# Altium integrated library ON Semi Signal Management Comparators.IntLib: 78 symbols (part 2 of 3)
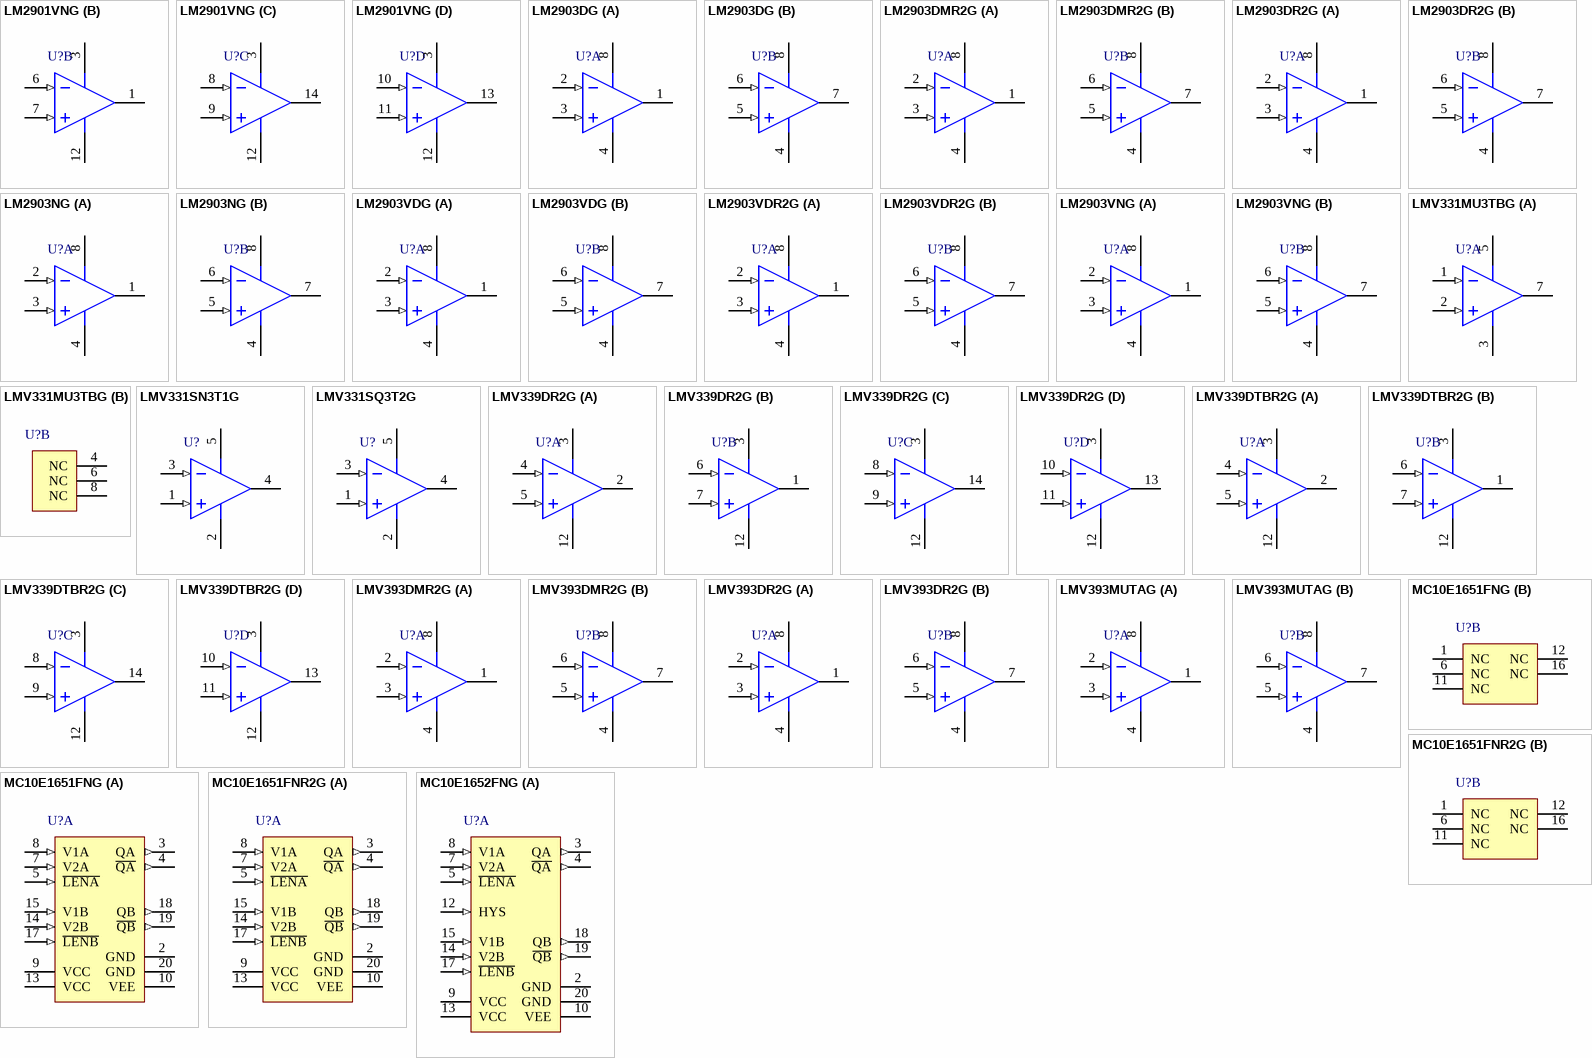
[diagram p5: symbols LM2901VNG to MC10E1652FNG]

## LMV331SQ3T2G
designator U?
Single General Purpose, Low Voltage Comparator, 2.7 to 5 V, -40 to 85 degC, 5-Pin SC70, Pb-Free, Tape and Reel; Manufacturer: On Semiconductor; PartNumber: LMV331SQ3T2G; ICC Typ (mA): 0.06; IO Typ (mA): 84; VCC Max (V): 5; VCC Min (V): 2.7; DatasheetVersion: Rev. 6; PackageVersion: Rev. K, 07/2010; PackageReference: SC70-5-419A-02_K; PackageDescription: 5-Pin Small Outline Transistor, Body 2 x 1.25 mm, Pitch 0.65 mm; Supplier 1: Digi-Key; Supplier Part Number 1: LMV331SQ3T2GOSTR-ND; Supplier 2: Digi-Key; Supplier Part Number 2: LMV331SQ3T2GOSCT-ND; Supplier 3: Digi-Key; Supplier Part Number 3: LMV331SQ3T2GOSDKR-ND; Supplier 4: Newark; Supplier Part Number 4: 13P4652; Supplier 5: Mouser; Supplier Part Number 5: 863-LMV331SQ3T2G; Packing: Tape and Reel; RoHS: TRUE; Mounting Technology: Surface Mount; ComponentLink1Description: Manufacturer URL; ComponentLink1URL: http://www.onsemi.com/; ComponentLink2Description: Datasheet; ComponentLink2URL: http://www.onsemi.com/pub_link/Collateral/LMV331-D.PDF; ComponentLink3Description: Package Specification; ComponentLink3URL: http://www.onsemi.cn/pub_link/Collateral/LMV821-D.PDF
footprint ONSC-SC70-5-419A-02_K_N (SOT23, 5-Leads, Body 2.2x1.35mm, Pitch 0.65mm, IPC Medium Density)
footprint ONSC-SC70-5-419A-02_K_L (SOT23, 5-Leads, Body 2.2x1.35mm, Pitch 0.65mm, IPC High Density)
footprint ONSC-SC70-5-419A-02_K_M (SOT23, 5-Leads, Body 2.2x1.35mm, Pitch 0.65mm, IPC Low Density)
pins: 1 IN+ (in), 2 GND (power), 3 IN- (in), 4 OUT (oc), 5 VCC (power)

## LMV339DR2G
designator U?
Quad General Purpose, Low Voltage Comparator, 2.7 to 5 V, -40 to 85 degC, 14-Pin SOIC, Pb-Free, Tape and Reel; Manufacturer: On Semiconductor; PartNumber: LMV339DR2G; ICC Typ (mA): 0.17; IO Typ (mA): 84; VCC Max (V): 5; VCC Min (V): 2.7; DatasheetVersion: Rev. 6; PackageVersion: Rev. H; PackageReference: SOIC-14-751A-03_H; PackageDescription: 14-Pin Small Outline Integrated Circuit, Body 8.65 x 3.9 mm, Pitch 1.27 mm; Supplier 1: Digi-Key; Supplier Part Number 1: LMV339DR2G-ND; Supplier 2: Mouser; Supplier Part Number 2: 863-LMV339DR2G; Packing: Tape and Reel; RoHS: TRUE; Mounting Technology: Surface Mount; ComponentLink1Description: Manufacturer URL; ComponentLink1URL: http://www.onsemi.com/; ComponentLink2Description: Datasheet; ComponentLink2URL: http://www.onsemi.com/pub_link/Collateral/LMV331-D.PDF; ComponentLink3Description: Package Specification; ComponentLink3URL: http://www.onsemi.com/pub_link/Collateral/MC74AC74-D.PDF
footprint ONSC-SOIC-14-751A-03_H_V (SOIC, 14-Leads, Body 8.75x4mm, Pitch 1.27mm)
pins on every part: 3 VCC (power), 12 GND (power)
part A pins: 2 OUT1 (oc), 4 IN1- (in), 5 IN1+ (in)
part B pins: 1 OUT2 (oc), 6 IN2- (in), 7 IN2+ (in)
part C pins: 8 IN3- (in), 9 IN3+ (in), 14 OUT3 (oc)
part D pins: 10 IN4- (in), 11 IN4+ (in), 13 OUT4 (oc)

## LMV339DTBR2G
designator U?
Quad General Purpose, Low Voltage Comparator, 2.7 to 5 V, -40 to 85 degC, 14-Pin TSSOP, Pb-Free, Tape and Reel; Manufacturer: On Semiconductor; PartNumber: LMV339DTBR2G; ICC Typ (mA): 0.17; IO Typ (mA): 84; VCC Max (V): 5; VCC Min (V): 2.7; DatasheetVersion: Rev. 6; PackageVersion: Rev. B, 10/2006; PackageReference: TSSOP-14-948G-01; PackageDescription: 14-Pin Small Outline Package, Body 5 x 4.4 mm, Pitch 0.65 mm; Supplier 1: Digi-Key; Supplier Part Number 1: LMV339DTBR2G-ND; Supplier 2: Newark; Supplier Part Number 2: 13P4654; Supplier 3: Mouser; Supplier Part Number 3: 863-LMV339DTBR2G; Packing: Tape and Reel; RoHS: TRUE; Mounting Technology: Surface Mount; ComponentLink1Description: Manufacturer URL; ComponentLink1URL: http://www.onsemi.com/; ComponentLink2Description: Datasheet; ComponentLink2URL: http://www.onsemi.com/pub_link/Collateral/LMV331-D.PDF; ComponentLink3Description: Package Specification; ComponentLink3URL: http://www.onsemi.com/pub_link/Collateral/948G-01.PDF
footprint ONSC-TSSOP-14-948G-01_V (SOP, 14-Leads, Body 5.1x4.5mm, Pitch 0.65mm)
pins on every part: 3 VCC (power), 12 GND (power)
part A pins: 2 OUT1 (oc), 4 IN1- (in), 5 IN1+ (in)
part B pins: 1 OUT2 (oc), 6 IN2- (in), 7 IN2+ (in)
part C pins: 8 IN3- (in), 9 IN3+ (in), 14 OUT3 (oc)
part D pins: 10 IN4- (in), 11 IN4+ (in), 13 OUT4 (oc)

## LMV393DMR2G
designator U?
Dual General Purpose, Low Voltage Comparator, 2.7 to 5 V, -40 to 85 degC, 8-Pin MICRO, Pb-Free, Tape and Reel; Manufacturer: On Semiconductor; PartNumber: LMV393DMR2G; ICC Typ (mA): 0.1; IO Typ (mA): 84; VCC Max (V): 5; VCC Min (V): 2.7; DatasheetVersion: Rev. 6; PackageVersion: Rev. H; PackageReference: MICRO-8-846A-02_H; PackageDescription: 8-Pin Small Outline Package, Body 3 x 3 mm, Pitch 0.65 mm; Supplier 1: Digi-Key; Supplier Part Number 1: LMV393DMR2GOSTR-ND; Supplier 2: Digi-Key; Supplier Part Number 2: LMV393DMR2GOSCT-ND; Supplier 3: Digi-Key; Supplier Part Number 3: LMV393DMR2GOSDKR-ND; Supplier 4: Newark; Supplier Part Number 4: 13P4656; Supplier 5: Mouser; Supplier Part Number 5: 863-LMV393DMR2G; Packing: Tape and Reel; RoHS: TRUE; Mounting Technology: Surface Mount; ComponentLink1Description: Manufacturer URL; ComponentLink1URL: http://www.onsemi.com/; ComponentLink2Description: Datasheet; ComponentLink2URL: http://www.onsemi.com/pub_link/Collateral/LMV331-D.PDF; ComponentLink3Description: Package Specification; ComponentLink3URL: http://www.onsemi.com/pub_link/Collateral/NLSV2T244-D.PDF
footprint ONSC-MICRO-8-846A-02_H_V (SOIC, 8-Leads, Body 3.1x3.1mm, Pitch 0.65mm)
pins on every part: 4 GND (power), 8 VCC (power)
part A pins: 1 OUTA (oc), 2 INA- (in), 3 INA+ (in)
part B pins: 5 INB+ (in), 6 INB- (in), 7 OUTB (oc)

## LMV393DR2G
designator U?
Dual General Purpose, Low Voltage Comparator, 2.7 to 5 V, -40 to 85 degC, 8-Pin SOIC, Pb-Free, Tape and Reel; Manufacturer: On Semiconductor; PartNumber: LMV393DR2G; ICC Typ (mA): 0.1; IO Typ (mA): 84; VCC Max (V): 5; VCC Min (V): 2.7; DatasheetVersion: Rev. 6; PackageVersion: Rev. AK, 02/2011; PackageReference: SOIC-8-751-07; PackageDescription: 8-Pin Small Outline Integrated Circuit, Body 4.9 x 3.9 mm, Pitch 1.27 mm; Supplier 1: Digi-Key; Supplier Part Number 1: LMV393DR2G-ND; Supplier 2: Newark; Supplier Part Number 2: 05R9050; Supplier 3: Mouser; Supplier Part Number 3: 863-LMV393DR2G; Packing: Tape and Reel; RoHS: TRUE; Mounting Technology: Surface Mount; ComponentLink1Description: Manufacturer URL; ComponentLink1URL: http://www.onsemi.com/; ComponentLink2Description: Datasheet; ComponentLink2URL: http://www.onsemi.com/pub_link/Collateral/LMV331-D.PDF; ComponentLink3Description: Package Specification; ComponentLink3URL: http://www.onsemi.com/pub_link/Collateral/751-07.PDF
footprint ONSC-SOIC-8-751-07_V (SOIC, 8-Leads, Body 4.9x3.9mm, Pitch 1.27mm)
pins on every part: 4 GND (power), 8 VCC (power)
part A pins: 1 OUTA (oc), 2 INA- (in), 3 INA+ (in)
part B pins: 5 INB+ (in), 6 INB- (in), 7 OUTB (oc)

## LMV393MUTAG
designator U?
Dual General Purpose, Low Voltage Comparator, 2.7 to 5 V, -40 to 85 degC, 8-Pin UDFN, Pb-Free, Tape and Reel; Manufacturer: On Semiconductor; PartNumber: LMV393MUTAG; ICC Typ (mA): 0.1; IO Typ (mA): 84; VCC Max (V): 5; VCC Min (V): 2.7; DatasheetVersion: Rev. 6; PackageVersion: Rev. O, 11/2006; PackageReference: UDFN-8-517AJ-01; PackageDescription: 8-Pin Small Outline No-Lead, Body 1.8 x 1.2 mm, Pitch 0.4 mm; Supplier 1: Digi-Key; Supplier Part Number 1: LMV393MUTAG-ND; Supplier 2: Mouser; Supplier Part Number 2: 863-LMV393MUTAG; Packing: Tape and Reel; RoHS: TRUE; Mounting Technology: Surface Mount; ComponentLink1Description: Manufacturer URL; ComponentLink1URL: http://www.onsemi.com/; ComponentLink2Description: Datasheet; ComponentLink2URL: http://www.onsemi.com/pub_link/Collateral/LMV331-D.PDF; ComponentLink3Description: Package Specification; ComponentLink3URL: http://www.onsemi.cn/pub_link/Collateral/517AJ.PDF.1
footprint ONSC-UDFN-8-517AJ-01_V (SON, 8-Leads, Body 1.8x1.2mm, Pitch 0.4mm)
pins on every part: 4 GND (power), 8 VCC (power)
part A pins: 1 OUTA (oc), 2 INA- (in), 3 INA+ (in)
part B pins: 5 INB+ (in), 6 INB- (in), 7 OUTB (oc)

## MC10E1651FNG
designator U?
Dual ECL Output Comparator with Latch, -5.2 to 5 V, 0 to 85 degC, 20-Pin PLLC, Pb-Free, Tube; Manufacturer: On Semiconductor; PartNumber: MC10E1651FNG; VCC Max (V): 5; DatasheetVersion: Rev. 10; PackageVersion: Rev. F, 07/2008; PackageReference: PLLC-20-775-02; PackageDescription: 20-Pin Plastic Leaded Chip Carrier, Body 8.965 x 8.965 mm, Pitch 1.27 mm; Supplier 1: Digi-Key; Supplier Part Number 1: MC10E1651FNGOS-ND; Supplier 2: Newark; Supplier Part Number 2: 26K3751; Supplier 3: Mouser; Supplier Part Number 3: 863-MC10E1651FNG; Packing: Tube; RoHS: TRUE; VCC Min (V): -5.2; Mounting Technology: Surface Mount; ComponentLink1Description: Manufacturer URL; ComponentLink1URL: http://www.onsemi.com/; ComponentLink2Description: Datasheet; ComponentLink2URL: http://www.onsemi.com/pub_link/Collateral/MC10E1651-D.PDF; ComponentLink3Description: Package Specification; ComponentLink3URL: http://www.onsemi.com/pub_link/Collateral/775-02.PDF
footprint ONSC-PLLC-20-775-02_N (PLCC, 20-Leads, Body 9.04x9.04mm, Pitch 1.27mm, IPC Medium Density)
footprint ONSC-PLLC-20-775-02_L (PLCC, 20-Leads, Body 9.04x9.04mm, Pitch 1.27mm, IPC High Density)
footprint ONSC-PLLC-20-775-02_M (PLCC, 20-Leads, Body 9.04x9.04mm, Pitch 1.27mm, IPC Low Density)
part A pins: 2 GND (power) "Ground", 3 QA (out) "ECL Differential Outputs (a)", 4 ~{QA} (out) "ECL Differential Outputs (a)", 5 ~{LENA} (in) "ECL Latch Enable", 7 V2A (in) "Input Comparator 2", 8 V1A (in) "Input Comparator 1", 9 VCC (power) "Positive Supply", 10 VEE (power) "Negative Supply", 13 VCC (power) "Positive Supply", 14 V2B (in) "Input Comparator 2", 15 V1B (in) "Input Comparator 1", 17 ~{LENB} (in) "ECL Latch Enable", 18 QB (out) "ECL Differential Outputs (b)", 19 ~{QB} (out) "ECL Differential Outputs (b)", 20 GND (power) "Ground"
part B pins: 1 NC "No Connect", 6 NC "No Connect", 11 NC "No Connect", 12 NC "No Connect", 16 NC "No Connect"

## MC10E1651FNR2G
designator U?
Dual ECL Output Comparator with Latch, -5.2 to 5 V, 0 to 85 degC, 20-Pin PLLC, Pb-Free, Tape and Reel; Manufacturer: On Semiconductor; PartNumber: MC10E1651FNR2G; VCC Max (V): 5; DatasheetVersion: Rev. 10; PackageVersion: Rev. F, 07/2008; PackageReference: PLLC-20-775-02; PackageDescription: 20-Pin Plastic Leaded Chip Carrier, Body 8.965 x 8.965 mm, Pitch 1.27 mm; Supplier 1: Digi-Key; Supplier Part Number 1: MC10E1651FNR2GOSTR-ND; Supplier 2: Digi-Key; Supplier Part Number 2: MC10E1651FNR2GOSCT-ND; Supplier 3: Mouser; Supplier Part Number 3: 863-MC10E1651FNR2G; Packing: Tape and Reel; RoHS: TRUE; VCC Min (V): -5.2; Mounting Technology: Surface Mount; ComponentLink1Description: Manufacturer URL; ComponentLink1URL: http://www.onsemi.com/; ComponentLink2Description: Datasheet; ComponentLink2URL: http://www.onsemi.com/pub_link/Collateral/MC10E1651-D.PDF; ComponentLink3Description: Package Specification; ComponentLink3URL: http://www.onsemi.com/pub_link/Collateral/775-02.PDF
footprint ONSC-PLLC-20-775-02_N (PLCC, 20-Leads, Body 9.04x9.04mm, Pitch 1.27mm, IPC Medium Density)
footprint ONSC-PLLC-20-775-02_L (PLCC, 20-Leads, Body 9.04x9.04mm, Pitch 1.27mm, IPC High Density)
footprint ONSC-PLLC-20-775-02_M (PLCC, 20-Leads, Body 9.04x9.04mm, Pitch 1.27mm, IPC Low Density)
part A pins: 2 GND (power) "Ground", 3 QA (out) "ECL Differential Outputs (a)", 4 ~{QA} (out) "ECL Differential Outputs (a)", 5 ~{LENA} (in) "ECL Latch Enable", 7 V2A (in) "Input Comparator 2", 8 V1A (in) "Input Comparator 1", 9 VCC (power) "Positive Supply", 10 VEE (power) "Negative Supply", 13 VCC (power) "Positive Supply", 14 V2B (in) "Input Comparator 2", 15 V1B (in) "Input Comparator 1", 17 ~{LENB} (in) "ECL Latch Enable", 18 QB (out) "ECL Differential Outputs (b)", 19 ~{QB} (out) "ECL Differential Outputs (b)", 20 GND (power) "Ground"
part B pins: 1 NC "No Connect", 6 NC "No Connect", 11 NC "No Connect", 12 NC "No Connect", 16 NC "No Connect"

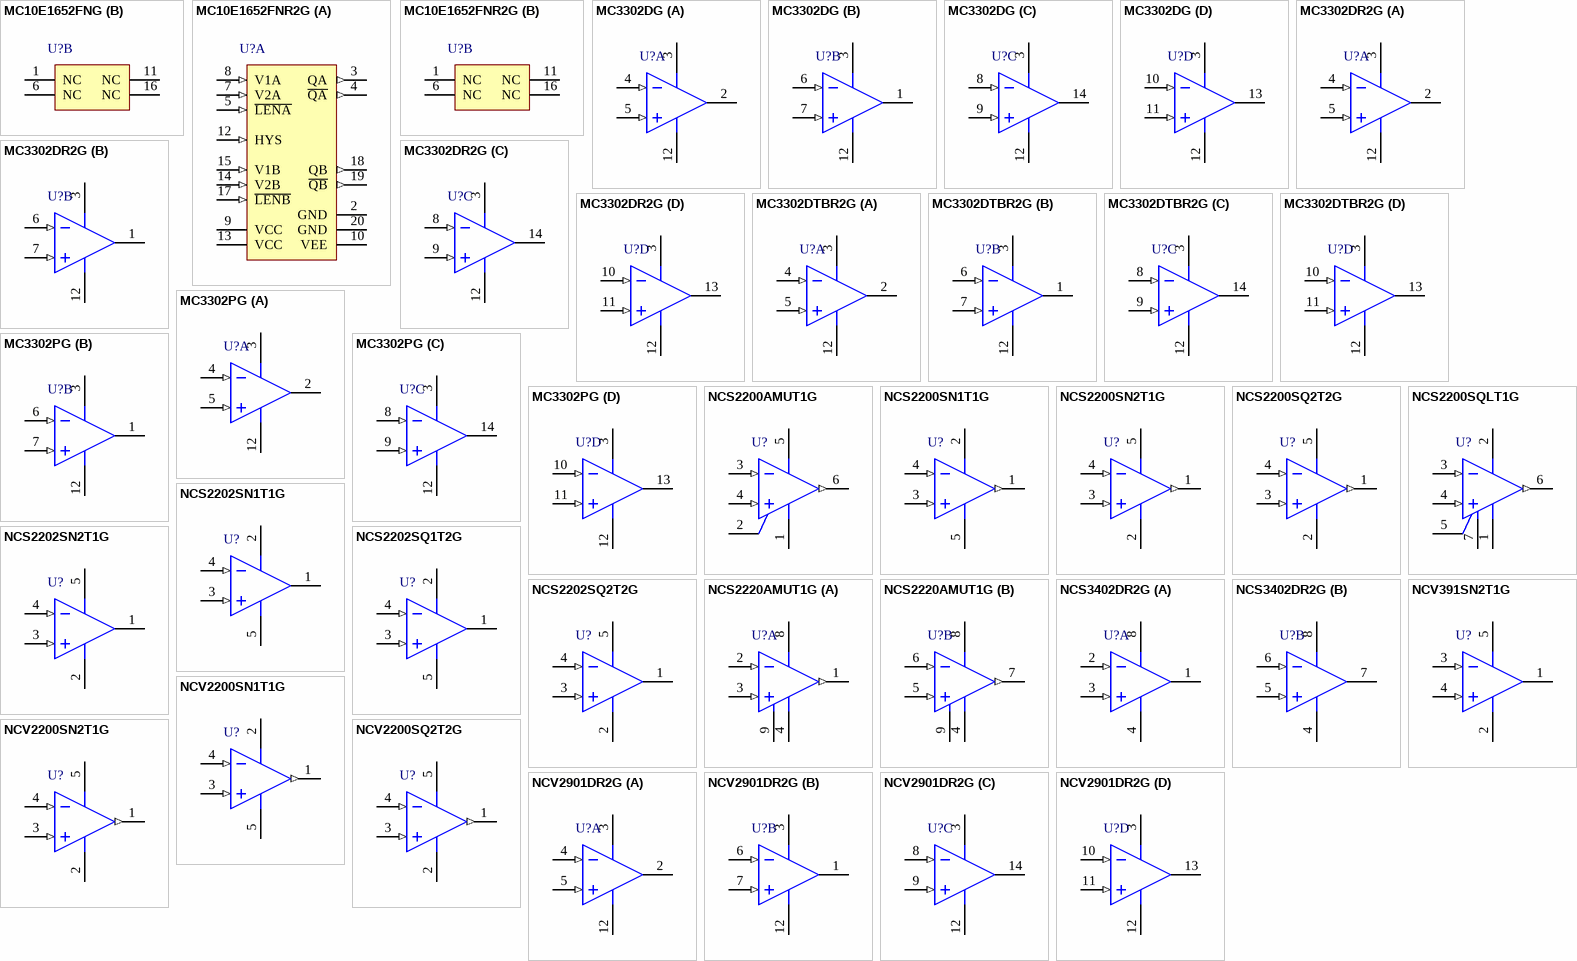
[diagram p3: symbols MC10E1652FNG to NCV2901DR2G]

## MC10E1652FNG
designator U?
Dual ECL Output Comparator with Latch, -5.2 to 5 V, 0 to 85 degC, 20-Pin PLLC, Pb-Free, Tube; Manufacturer: On Semiconductor; PartNumber: MC10E1652FNG; VCC Max (V): 5; DatasheetVersion: Rev. 10; PackageVersion: Rev. F, 07/2008; PackageReference: PLLC-20-775-02; PackageDescription: 20-Pin Plastic Leaded Chip Carrier, Body 8.965 x 8.965 mm, Pitch 1.27 mm; Supplier 1: Digi-Key; Supplier Part Number 1: MC10E1652FNGOS-ND; Supplier 2: Newark; Supplier Part Number 2: 26K3753; Supplier 3: Mouser; Supplier Part Number 3: 863-MC10E1652FNG; Packing: Tube; RoHS: TRUE; VCC Min (V): -5.2; Mounting Technology: Surface Mount; ComponentLink1Description: Manufacturer URL; ComponentLink1URL: http://www.onsemi.com/; ComponentLink2Description: Datasheet; ComponentLink2URL: http://www.onsemi.com/pub_link/Collateral/MC10E1652-D.PDF; ComponentLink3Description: Package Specification; ComponentLink3URL: http://www.onsemi.com/pub_link/Collateral/775-02.PDF
footprint ONSC-PLLC-20-775-02_N (PLCC, 20-Leads, Body 9.04x9.04mm, Pitch 1.27mm, IPC Medium Density)
footprint ONSC-PLLC-20-775-02_L (PLCC, 20-Leads, Body 9.04x9.04mm, Pitch 1.27mm, IPC High Density)
footprint ONSC-PLLC-20-775-02_M (PLCC, 20-Leads, Body 9.04x9.04mm, Pitch 1.27mm, IPC Low Density)
part A pins: 2 GND (power) "Ground", 3 QA (out) "ECL Differential Outputs (a)", 4 ~{QA} (out) "ECL Differential Outputs (a)", 5 ~{LENA} (in) "ECL Latch Enable", 7 V2A (in) "Input Comparator 2", 8 V1A (in) "Input Comparator 1", 9 VCC (power) "Positive Supply", 10 VEE (power) "Negative Supply", 12 HYS (in) "Hysteresis Bias Voltage Control Input", 13 VCC (power) "Positive Supply", 14 V2B (in) "Input Comparator 2", 15 V1B (in) "Input Comparator 1", 17 ~{LENB} (in) "ECL Latch Enable", 18 QB (out) "ECL Differential Outputs (b)", 19 ~{QB} (out) "ECL Differential Outputs (b)", 20 GND (power) "Ground"
part B pins: 1 NC "No Connect", 6 NC "No Connect", 11 NC "No Connect", 16 NC "No Connect"

## MC10E1652FNR2G
designator U?
Dual ECL Output Comparator with Latch, -5.2 to 5 V, 0 to 85 degC, 20-Pin PLLC, Pb-Free, Tape and Reel; Manufacturer: On Semiconductor; PartNumber: MC10E1652FNR2G; VCC Max (V): 5; DatasheetVersion: Rev. 10; PackageVersion: Rev. F, 07/2008; PackageReference: PLLC-20-775-02; PackageDescription: 20-Pin Plastic Leaded Chip Carrier, Body 8.965 x 8.965 mm, Pitch 1.27 mm; Supplier 1: Digi-Key; Supplier Part Number 1: MC10E1652FNR2GOS-ND; Supplier 2: Mouser; Supplier Part Number 2: 863-MC10E1652FNR2G; Packing: Tape and Reel; RoHS: TRUE; VCC Min (V): -5.2; Mounting Technology: Surface Mount; ComponentLink1Description: Manufacturer URL; ComponentLink1URL: http://www.onsemi.com/; ComponentLink2Description: Datasheet; ComponentLink2URL: http://www.onsemi.com/pub_link/Collateral/MC10E1652-D.PDF; ComponentLink3Description: Package Specification; ComponentLink3URL: http://www.onsemi.com/pub_link/Collateral/775-02.PDF
footprint ONSC-PLLC-20-775-02_N (PLCC, 20-Leads, Body 9.04x9.04mm, Pitch 1.27mm, IPC Medium Density)
footprint ONSC-PLLC-20-775-02_L (PLCC, 20-Leads, Body 9.04x9.04mm, Pitch 1.27mm, IPC High Density)
footprint ONSC-PLLC-20-775-02_M (PLCC, 20-Leads, Body 9.04x9.04mm, Pitch 1.27mm, IPC Low Density)
part A pins: 2 GND (power) "Ground", 3 QA (out) "ECL Differential Outputs (a)", 4 ~{QA} (out) "ECL Differential Outputs (a)", 5 ~{LENA} (in) "ECL Latch Enable", 7 V2A (in) "Input Comparator 2", 8 V1A (in) "Input Comparator 1", 9 VCC (power) "Positive Supply", 10 VEE (power) "Negative Supply", 12 HYS (in) "Hysteresis Bias Voltage Control Input", 13 VCC (power) "Positive Supply", 14 V2B (in) "Input Comparator 2", 15 V1B (in) "Input Comparator 1", 17 ~{LENB} (in) "ECL Latch Enable", 18 QB (out) "ECL Differential Outputs (b)", 19 ~{QB} (out) "ECL Differential Outputs (b)", 20 GND (power) "Ground"
part B pins: 1 NC "No Connect", 6 NC "No Connect", 11 NC "No Connect", 16 NC "No Connect"

## MC3302DG
designator U?
Single Supply Quad Comparators, -40 to 85 degC, 14-Pin SOIC, Pb-Free, Tube; Manufacturer: On Semiconductor; PartNumber: MC3302DG; IO Typ (mA): 16; DatasheetVersion: Rev. 20; PackageVersion: Rev. K, 05/2011; PackageReference: SOIC-14-751A-03; PackageDescription: 14-Pin Small Outline Integrated Circuit, Body 8.65 x 3.9 mm, Pitch 1.27 mm; Supplier 1: Digi-Key; Supplier Part Number 1: MC3302DG-ND; Supplier 2: Mouser; Supplier Part Number 2: 863-MC3302DG; Packing: Tube; RoHS: TRUE; Mounting Technology: Surface Mount; ComponentLink1Description: Manufacturer URL; ComponentLink1URL: http://www.onsemi.com/; ComponentLink2Description: Datasheet; ComponentLink2URL: http://www.onsemi.com/pub_link/Collateral/LM339-D.PDF; ComponentLink3Description: Package Specification; ComponentLink3URL: http://www.onsemi.com/pub_link/Collateral/751A-03.PDF
footprint ONSC-SOIC-14-751A-03_V (SOIC, 14-Leads, Body 8.75x4mm, Pitch 1.27mm)
pins on every part: 3 VCC (power), 12 GND (power)
part A pins: 2 OUT1 (oc), 4 IN1- (in), 5 IN1+ (in)
part B pins: 1 OUT2 (oc), 6 IN2- (in), 7 IN2+ (in)
part C pins: 8 IN3- (in), 9 IN3+ (in), 14 OUT3 (oc)
part D pins: 10 IN4- (in), 11 IN4+ (in), 13 OUT4 (oc)

## MC3302DR2G
designator U?
Single Supply Quad Comparators, -40 to 85 degC, 14-Pin SOIC, Pb-Free, Tape and Reel; Manufacturer: On Semiconductor; PartNumber: MC3302DR2G; IO Typ (mA): 16; DatasheetVersion: Rev. 20; PackageVersion: Rev. K, 05/2011; PackageReference: SOIC-14-751A-03; PackageDescription: 14-Pin Small Outline Integrated Circuit, Body 8.65 x 3.9 mm, Pitch 1.27 mm; Supplier 1: Digi-Key; Supplier Part Number 1: MC3302DR2GOSTR-ND; Supplier 2: Digi-Key; Supplier Part Number 2: MC3302DR2GOSCT-ND; Supplier 3: Digi-Key; Supplier Part Number 3: MC3302DR2GOSDKR-ND; Supplier 4: Mouser; Supplier Part Number 4: 863-MC3302DR2G; Packing: Tape and Reel; RoHS: TRUE; Mounting Technology: Surface Mount; ComponentLink1Description: Manufacturer URL; ComponentLink1URL: http://www.onsemi.com/; ComponentLink2Description: Datasheet; ComponentLink2URL: http://www.onsemi.com/pub_link/Collateral/LM339-D.PDF; ComponentLink3Description: Package Specification; ComponentLink3URL: http://www.onsemi.com/pub_link/Collateral/751A-03.PDF
footprint ONSC-SOIC-14-751A-03_V (SOIC, 14-Leads, Body 8.75x4mm, Pitch 1.27mm)
pins on every part: 3 VCC (power), 12 GND (power)
part A pins: 2 OUT1 (oc), 4 IN1- (in), 5 IN1+ (in)
part B pins: 1 OUT2 (oc), 6 IN2- (in), 7 IN2+ (in)
part C pins: 8 IN3- (in), 9 IN3+ (in), 14 OUT3 (oc)
part D pins: 10 IN4- (in), 11 IN4+ (in), 13 OUT4 (oc)

## MC3302DTBR2G
designator U?
Single Supply Quad Comparators, -40 to 85 degC, 14-Pin TSSOP, Pb-Free, Tape and Reel; Manufacturer: On Semiconductor; PartNumber: MC3302DTBR2G; IO Typ (mA): 16; DatasheetVersion: Rev. 20; PackageVersion: Rev. B, 10/2006; PackageReference: TSSOP-14-948G-01; PackageDescription: 14-Pin Small Outline Package, Body 5 x 4.4 mm, Pitch 0.65 mm; Supplier 1: Digi-Key; Supplier Part Number 1: MC3302DTBR2GOSTR-ND; Supplier 2: Digi-Key; Supplier Part Number 2: MC3302DTBR2GOSCT-ND; Supplier 3: Mouser; Supplier Part Number 3: 863-MC3302DTBR2G; Packing: Tape and Reel; RoHS: TRUE; Mounting Technology: Surface Mount; ComponentLink1Description: Manufacturer URL; ComponentLink1URL: http://www.onsemi.com/; ComponentLink2Description: Datasheet; ComponentLink2URL: http://www.onsemi.com/pub_link/Collateral/LM339-D.PDF; ComponentLink3Description: Package Specification; ComponentLink3URL: http://www.onsemi.com/pub_link/Collateral/948G-01.PDF
footprint ONSC-TSSOP-14-948G-01_V (SOP, 14-Leads, Body 5.1x4.5mm, Pitch 0.65mm)
pins on every part: 3 VCC (power), 12 GND (power)
part A pins: 2 OUT1 (oc), 4 IN1- (in), 5 IN1+ (in)
part B pins: 1 OUT2 (oc), 6 IN2- (in), 7 IN2+ (in)
part C pins: 8 IN3- (in), 9 IN3+ (in), 14 OUT3 (oc)
part D pins: 10 IN4- (in), 11 IN4+ (in), 13 OUT4 (oc)

## MC3302PG
designator U?
Single Supply Quad Comparators, -40 to 85 degC, 14-Pin PDIP, Pb-Free, Tube; Manufacturer: On Semiconductor; PartNumber: MC3302PG; IO Typ (mA): 16; DatasheetVersion: Rev. 20; PackageVersion: Rev. R, 06/2013; PackageReference: PDIP-14-646-06; PackageDescription: 14-Pin Plastic Dual-In Line Package, Body 19.18 x 6.605 mm, Pitch 2.54 mm; Supplier 1: Digi-Key; Supplier Part Number 1: MC3302PGOS-ND; Supplier 2: Farnell; Supplier Part Number 2: 1468733; Supplier 3: Newark; Supplier Part Number 3: 71J5510; Supplier 4: Mouser; Supplier Part Number 4: 863-MC3302PG; Packing: Tube; RoHS: TRUE; Mounting Technology: Through Hole; ComponentLink1Description: Manufacturer URL; ComponentLink1URL: http://www.onsemi.com/; ComponentLink2Description: Datasheet; ComponentLink2URL: http://www.onsemi.com/pub_link/Collateral/LM339-D.PDF; ComponentLink3Description: Package Specification; ComponentLink3URL: http://www.onsemi.com/pub_link/Collateral/646-06.PDF
footprint ONSC-PDIP-14-646-06 (DIP, 14-Leads, Body 19.7x7.1mm, Pitch 2.54mm)
pins on every part: 3 VCC (power), 12 GND (power)
part A pins: 2 OUT1 (oc), 4 IN1- (in), 5 IN1+ (in)
part B pins: 1 OUT2 (oc), 6 IN2- (in), 7 IN2+ (in)
part C pins: 8 IN3- (in), 9 IN3+ (in), 14 OUT3 (oc)
part D pins: 10 IN4- (in), 11 IN4+ (in), 13 OUT4 (oc)

## NCS2200AMUT1G
designator U?
Low Voltage Comparator, 0.85 to 6 V, -40 to 105 degC, 6-Pin UDFN6, Pb-Free, Tape and Reel; Manufacturer: On Semiconductor; PartNumber: NCS2200AMUT1G; ICC Typ (mA): 0.01; VCC Max (V): 6; VCC Min (V): 0.85; DatasheetVersion: Rev. 15; PackageVersion: Rev. D, 09/2010; PackageReference: UDFN-6-517AA-01; PackageDescription: 6-Pin Small Outline No-Lead, Body 1.2 x 1 mm, Pitch 0.4 mm; Supplier 1: Digi-Key; Supplier Part Number 1: NCS2200AMUT1GOSTR-ND; Supplier 2: Digi-Key; Supplier Part Number 2: NCS2200AMUT1GOSCT-ND; Supplier 3: Digi-Key; Supplier Part Number 3: NCS2200AMUT1GOSDKR-ND; Supplier 4: Farnell; Supplier Part Number 4: 1369752; Supplier 5: Farnell; Supplier Part Number 5: 1369752RL; Supplier 6: Newark; Supplier Part Number 6: 53M9468; Supplier 7: Mouser; Supplier Part Number 7: 863-NCS2200AMUT1G; Packing: Tape and Reel; RoHS: TRUE; Mounting Technology: Surface Mount; ComponentLink1Description: Manufacturer URL; ComponentLink1URL: http://www.onsemi.com/; ComponentLink2Description: Datasheet; ComponentLink2URL: http://www.onsemi.com/pub_link/Collateral/NCS2200-D.PDF; ComponentLink3Description: Package Specification; ComponentLink3URL: http://www.onsemi.com/pub_link/Collateral/517AA.PDF
footprint ONSC-UDFN6-6-517AA-01_V (SON, 6-Leads, Body 1.2x1mm, Pitch 0.4mm)
pins: 1 VEE (power), 2 NC, 3 IN- (in), 4 IN+ (in), 5 VCC (power), 6 VOUT (out)

## NCS2200SN1T1G
designator U?
Low Voltage Comparator, 0.85 to 6 V, -40 to 105 degC, 5-Pin TSOP, Pb-Free, Tape and Reel; Manufacturer: On Semiconductor; PartNumber: NCS2200SN1T1G; ICC Typ (mA): 0.01; VCC Max (V): 6; VCC Min (V): 0.85; DatasheetVersion: Rev. 15; PackageVersion: Rev. K, 04/2013; PackageReference: TSOP-5-483-02; PackageDescription: 5-Pin Small Outline Package, Body 3 x 1.5 mm, Pitch 0.95 mm; Supplier 1: Digi-Key; Supplier Part Number 1: NCS2200SN1T1GOSTR-ND; Supplier 2: Digi-Key; Supplier Part Number 2: NCS2200SN1T1GOSCT-ND; Supplier 3: Digi-Key; Supplier Part Number 3: NCS2200SN1T1GOSDKR-ND; Supplier 4: Mouser; Supplier Part Number 4: 863-NCS2200SN1T1G; Packing: Tape and Reel; RoHS: TRUE; Mounting Technology: Surface Mount; ComponentLink1Description: Manufacturer URL; ComponentLink1URL: http://www.onsemi.com/; ComponentLink2Description: Datasheet; ComponentLink2URL: http://www.onsemi.com/pub_link/Collateral/NCS2200-D.PDF; ComponentLink3Description: Package Specification; ComponentLink3URL: http://www.onsemi.com/pub_link/Collateral/483.PDF
footprint ONSC-TSOP-5-483-02_V (SOP, 5-Leads, Body 3x1.5mm, Pitch 0.95mm)
pins: 1 OUT (out), 2 VCC (power), 3 IN+ (in), 4 IN- (in), 5 VEE (power)

## NCS2200SN2T1G
designator U?
Low Voltage Comparator, 0.85 to 6 V, -40 to 105 degC, 5-Pin TSOP, Pb-Free, Tape and Reel; Manufacturer: On Semiconductor; PartNumber: NCS2200SN2T1G; ICC Typ (mA): 0.01; VCC Max (V): 6; VCC Min (V): 0.85; DatasheetVersion: Rev. 15; PackageVersion: Rev. K, 04/2013; PackageReference: TSOP-5-483-02; PackageDescription: 5-Pin Small Outline Package, Body 3 x 1.5 mm, Pitch 0.95 mm; Supplier 1: Digi-Key; Supplier Part Number 1: NCS2200SN2T1GOSTR-ND; Supplier 2: Digi-Key; Supplier Part Number 2: NCS2200SN2T1GOSCT-ND; Supplier 3: Mouser; Supplier Part Number 3: 863-NCS2200SN2T1G; Packing: Tape and Reel; RoHS: TRUE; Mounting Technology: Surface Mount; ComponentLink1Description: Manufacturer URL; ComponentLink1URL: http://www.onsemi.com/; ComponentLink2Description: Datasheet; ComponentLink2URL: http://www.onsemi.com/pub_link/Collateral/NCS2200-D.PDF; ComponentLink3Description: Package Specification; ComponentLink3URL: http://www.onsemi.com/pub_link/Collateral/483.PDF
footprint ONSC-TSOP-5-483-02_V (SOP, 5-Leads, Body 3x1.5mm, Pitch 0.95mm)
pins: 1 OUT (out), 2 VEE (power), 3 IN+ (in), 4 IN- (in), 5 VCC (power)

## NCS2200SQ2T2G
designator U?
Low Voltage Comparator, 0.85 to 6 V, -40 to 105 degC, 5-Pin SC70, Pb-Free, Tape and Reel; Manufacturer: On Semiconductor; PartNumber: NCS2200SQ2T2G; ICC Typ (mA): 0.01; VCC Max (V): 6; VCC Min (V): 0.85; DatasheetVersion: Rev. 15; PackageVersion: Rev. L, 01/2013; PackageReference: SC70-5-419A-02; PackageDescription: 5-Pin Small Outline Transistor, Body 2 x 1.25 mm, Pitch 0.65 mm; Supplier 1: Digi-Key; Supplier Part Number 1: NCS2200SQ2T2GOSTR-ND; Supplier 2: Digi-Key; Supplier Part Number 2: NCS2200SQ2T2GOSCT-ND; Supplier 3: Digi-Key; Supplier Part Number 3: NCS2200SQ2T2GOSDKR-ND; Supplier 4: Mouser; Supplier Part Number 4: 863-NCS2200SQ2T2G; Packing: Tape and Reel; RoHS: TRUE; Mounting Technology: Surface Mount; ComponentLink1Description: Manufacturer URL; ComponentLink1URL: http://www.onsemi.com/; ComponentLink2Description: Datasheet; ComponentLink2URL: http://www.onsemi.com/pub_link/Collateral/NCS2200-D.PDF; ComponentLink3Description: Package Specification; ComponentLink3URL: http://www.onsemi.cn/pub_link/Collateral/419A-02.PDF
footprint ONSC-SC70-5-419A-02_V (SOT23, 5-Leads, Body 2x1.25mm, Pitch 0.65mm)
pins: 1 OUT (out), 2 VEE (power), 3 IN+ (in), 4 IN- (in), 5 VCC (power)

## NCS2200SQLT1G
designator U?
Low Voltage Comparator, 0.85 to 6 V, -40 to 105 degC, 6-Pin DFN, Pb-Free, Tape and Reel; Manufacturer: On Semiconductor; PartNumber: NCS2200SQLT1G; ICC Typ (mA): 0.01; VCC Max (V): 6; VCC Min (V): 0.85; DatasheetVersion: Rev. 15; PackageVersion: Rev. G, 02/2006; PackageReference: DFN-6-488-03; PackageDescription: 6-Pin Small Outline No-Lead, Body 2 x 2.2 mm, Pitch 0.65 mm; Supplier 1: Digi-Key; Supplier Part Number 1: NCS2200SQLT1GOSTR-ND; Supplier 2: Digi-Key; Supplier Part Number 2: NCS2200SQLT1GOSCT-ND; Supplier 3: Mouser; Supplier Part Number 3: 863-NCS2200SQLT1G; Packing: Tape and Reel; RoHS: TRUE; Mounting Technology: Surface Mount; ComponentLink1Description: Manufacturer URL; ComponentLink1URL: http://www.onsemi.com/; ComponentLink2Description: Datasheet; ComponentLink2URL: http://www.onsemi.com/pub_link/Collateral/NCS2200-D.PDF; ComponentLink3Description: Package Specification; ComponentLink3URL: http://www.onsemi.com/pub_link/Collateral/488.PDF
footprint ONSC-DFN6-6-488-03_V (SON, 6-Leads, Body 2.2x2mm, Pitch 0.65mm)
pins: 1 VEE (power), 2 VCC (power), 3 IN- (in), 4 IN+ (in), 5 NC, 6 VOUT (out), 7 EP

## NCS2202SN1T1G
designator U?
Low Voltage Comparator, 0.85 to 6 V, -40 to 105 degC, 5-Pin TSOP, Pb-Free, Tape and Reel; Manufacturer: On Semiconductor; PartNumber: NCS2202SN1T1G; ICC Typ (mA): 0.01; VCC Max (V): 6; VCC Min (V): 0.85; DatasheetVersion: Rev. 15; PackageVersion: Rev. K, 04/2013; PackageReference: TSOP-5-483-02; PackageDescription: 5-Pin Small Outline Package, Body 3 x 1.5 mm, Pitch 0.95 mm; Supplier 1: Digi-Key; Supplier Part Number 1: NCS2202SN1T1GOSTR-ND; Supplier 2: Digi-Key; Supplier Part Number 2: NCS2202SN1T1GOSCT-ND; Supplier 3: Newark; Supplier Part Number 3: 45J1980; Supplier 4: Mouser; Supplier Part Number 4: 863-NCS2202SN1T1G; Packing: Tape and Reel; RoHS: TRUE; Mounting Technology: Surface Mount; ComponentLink1Description: Manufacturer URL; ComponentLink1URL: http://www.onsemi.com/; ComponentLink2Description: Datasheet; ComponentLink2URL: http://www.onsemi.com/pub_link/Collateral/NCS2200-D.PDF; ComponentLink3Description: Package Specification; ComponentLink3URL: http://www.onsemi.com/pub_link/Collateral/483.PDF
footprint ONSC-TSOP-5-483-02_V (SOP, 5-Leads, Body 3x1.5mm, Pitch 0.95mm)
pins: 1 OUT (oc), 2 VCC (power), 3 IN+ (in), 4 IN- (in), 5 VEE (power)

## NCS2202SN2T1G
designator U?
Low Voltage Comparator, 0.85 to 6 V, -40 to 105 degC, 5-Pin TSOP, Pb-Free, Tape and Reel; Manufacturer: On Semiconductor; PartNumber: NCS2202SN2T1G; ICC Typ (mA): 0.01; VCC Max (V): 6; VCC Min (V): 0.85; DatasheetVersion: Rev. 15; PackageVersion: Rev. K, 04/2013; PackageReference: TSOP-5-483-02; PackageDescription: 5-Pin Small Outline Package, Body 3 x 1.5 mm, Pitch 0.95 mm; Supplier 1: Digi-Key; Supplier Part Number 1: NCS2202SN2T1GOSTR-ND; Supplier 2: Digi-Key; Supplier Part Number 2: NCS2202SN2T1GOSCT-ND; Supplier 3: Newark; Supplier Part Number 3: 26K4993; Supplier 4: Mouser; Supplier Part Number 4: 863-NCS2202SN2T1G; Packing: Tape and Reel; RoHS: TRUE; Mounting Technology: Surface Mount; ComponentLink1Description: Manufacturer URL; ComponentLink1URL: http://www.onsemi.com/; ComponentLink2Description: Datasheet; ComponentLink2URL: http://www.onsemi.com/pub_link/Collateral/NCS2200-D.PDF; ComponentLink3Description: Package Specification; ComponentLink3URL: http://www.onsemi.com/pub_link/Collateral/483.PDF
footprint ONSC-TSOP-5-483-02_V (SOP, 5-Leads, Body 3x1.5mm, Pitch 0.95mm)
pins: 1 OUT (oc), 2 VEE (power), 3 IN+ (in), 4 IN- (in), 5 VCC (power)

## NCS2202SQ1T2G
designator U?
Low Voltage Comparator, 0.85 to 6 V, -40 to 105 degC, 5-Pin SC70, Pb-Free, Tape and Reel; Manufacturer: On Semiconductor; PartNumber: NCS2202SQ1T2G; ICC Typ (mA): 0.01; VCC Max (V): 6; VCC Min (V): 0.85; DatasheetVersion: Rev. 15; PackageVersion: Rev. L, 01/2013; PackageReference: SC70-5-419A-02; PackageDescription: 5-Pin Small Outline Transistor, Body 2 x 1.25 mm, Pitch 0.65 mm; Supplier 1: Digi-Key; Supplier Part Number 1: NCS2202SQ1T2GOSTR-ND; Supplier 2: Digi-Key; Supplier Part Number 2: NCS2202SQ1T2GOSCT-ND; Supplier 3: Mouser; Supplier Part Number 3: 863-NCS2202SQ1T2G; Packing: Tape and Reel; RoHS: TRUE; Mounting Technology: Surface Mount; ComponentLink1Description: Manufacturer URL; ComponentLink1URL: http://www.onsemi.com/; ComponentLink2Description: Datasheet; ComponentLink2URL: http://www.onsemi.com/pub_link/Collateral/NCS2200-D.PDF; ComponentLink3Description: Package Specification; ComponentLink3URL: http://www.onsemi.cn/pub_link/Collateral/419A-02.PDF
footprint ONSC-SC70-5-419A-02_V (SOT23, 5-Leads, Body 2x1.25mm, Pitch 0.65mm)
pins: 1 OUT (oc), 2 VCC (power), 3 IN+ (in), 4 IN- (in), 5 VEE (power)

## NCS2202SQ2T2G
designator U?
Low Voltage Comparator, 0.85 to 6 V, -40 to 105 degC, 5-Pin SC70, Pb-Free, Tape and Reel; Manufacturer: On Semiconductor; PartNumber: NCS2202SQ2T2G; ICC Typ (mA): 0.01; VCC Max (V): 6; VCC Min (V): 0.85; DatasheetVersion: Rev. 15; PackageVersion: Rev. L, 01/2013; PackageReference: SC70-5-419A-02; PackageDescription: 5-Pin Small Outline Transistor, Body 2 x 1.25 mm, Pitch 0.65 mm; Supplier 1: Digi-Key; Supplier Part Number 1: NCS2202SQ2T2GOSTR-ND; Supplier 2: Digi-Key; Supplier Part Number 2: NCS2202SQ2T2GOSCT-ND; Supplier 3: Mouser; Supplier Part Number 3: 863-NCS2202SQ2T2G; Packing: Tape and Reel; RoHS: TRUE; Mounting Technology: Surface Mount; ComponentLink1Description: Manufacturer URL; ComponentLink1URL: http://www.onsemi.com/; ComponentLink2Description: Datasheet; ComponentLink2URL: http://www.onsemi.com/pub_link/Collateral/NCS2200-D.PDF; ComponentLink3Description: Package Specification; ComponentLink3URL: http://www.onsemi.cn/pub_link/Collateral/419A-02.PDF
footprint ONSC-SC70-5-419A-02_V (SOT23, 5-Leads, Body 2x1.25mm, Pitch 0.65mm)
pins: 1 OUT (oc), 2 VEE (power), 3 IN+ (in), 4 IN- (in), 5 VCC (power)

## NCS2220AMUT1G
designator U?
Low Voltage Comparator, 0.85 to 6 V, -40 to 105 degC, 8-Pin UDFN8, Pb-Free, Tape and Reel; Manufacturer: On Semiconductor; PartNumber: NCS2220AMUT1G; VCC Max (V): 6; VCC Min (V): 0.85; DatasheetVersion: Rev. 2; PackageVersion: Rev. A; PackageReference: UDFN-8-517AC-01; PackageDescription: 8-Pin Small Outline No-Lead, Body 1.6 x 1.6 mm, Pitch 0.4 mm; Supplier 1: Digi-Key; Supplier Part Number 1: NCS2220AMUT1GOSTR-ND; Supplier 2: Digi-Key; Supplier Part Number 2: NCS2220AMUT1GOSCT-ND; Supplier 3: Digi-Key; Supplier Part Number 3: NCS2220AMUT1GOSDKR-ND; Supplier 4: Farnell; Supplier Part Number 4: 1426377RL; Supplier 5: Farnell; Supplier Part Number 5: 1426377; Supplier 6: Mouser; Supplier Part Number 6: 863-NCS2220AMUT1G; Packing: Tape and Reel; RoHS: TRUE; Mounting Technology: Surface Mount; ComponentLink1Description: Manufacturer URL; ComponentLink1URL: http://www.onsemi.com/; ComponentLink2Description: Datasheet; ComponentLink2URL: http://www.onsemi.com/pub_link/Collateral/NCS2220A-D.PDF; ComponentLink3Description: Package Specification; ComponentLink3URL: http://www.onsemi.com/pub_link/Collateral/517AC.PDF.1
footprint ONSC-UDFN8-8-517AC-01_V (SON, 8-Leads, Body 1.6x1.6mm, Pitch 0.4mm, Thermal Pad 0.502x0.902mm)
pins on every part: 4 VEE (power), 8 VCC (power), 9 EP
part A pins: 1 OUT1 (out), 2 IN1- (in), 3 IN1+ (in)
part B pins: 5 IN2+ (in), 6 IN2- (in), 7 OUT2 (out)

## NCS3402DR2G
designator U?
Dual Nano-Power Open Drain Output Comparator, 2.7 to 16 V, -40 to 125 degC, 8-Pin SOIC, Pb-Free, Tape and Reel; Manufacturer: On Semiconductor; PartNumber: NCS3402DR2G; VCC Max (V): 16; VCC Min (V): 2.7; DatasheetVersion: Rev. 2; PackageVersion: Rev. AK, 02/2011; PackageReference: SOIC-8-751-07; PackageDescription: 8-Pin Small Outline Integrated Circuit, Body 4.9 x 3.9 mm, Pitch 1.27 mm; Supplier 1: Digi-Key; Supplier Part Number 1: NCS3402DR2GOSTR-ND; Supplier 2: Digi-Key; Supplier Part Number 2: NCS3402DR2GOSCT-ND; Supplier 3: Digi-Key; Supplier Part Number 3: NCS3402DR2GOSDKR-ND; Supplier 4: Mouser; Supplier Part Number 4: 863-NCS3402DR2G; Packing: Tape and Reel; RoHS: TRUE; Mounting Technology: Surface Mount; ComponentLink1Description: Manufacturer URL; ComponentLink1URL: http://www.onsemi.com/; ComponentLink2Description: Datasheet; ComponentLink2URL: http://www.onsemi.com/pub_link/Collateral/NCS3402-D.PDF; ComponentLink3Description: Package Specification; ComponentLink3URL: http://www.onsemi.com/pub_link/Collateral/751-07.PDF
footprint ONSC-SOIC-8-751-07_V (SOIC, 8-Leads, Body 4.9x3.9mm, Pitch 1.27mm)
pins on every part: 4 VSS (power) "Negative Power Supply", 8 VDD (power) "Positive Power Supply"
part A pins: 1 OUT1 (oc) "Channel 1 Output", 2 IN1- (in) "Channel 1 Inverting Input", 3 IN1+ (in) "Channel 1 Non-Inverting Input"
part B pins: 5 IN2+ (in) "Channel 2 Non-Inverting Input", 6 IN2- (in) "Channel 2 Inverting Input", 7 OUT2 (oc) "Channel 2 Output"

## NCV391SN2T1G
designator U?
Low Power Single Voltage Comparator, 2 to 36 V, -40 to 125 degC, 5-Pin TSOP, Pb-Free, Tape and Reel; Manufacturer: On Semiconductor; PartNumber: NCV391SN2T1G; ICC Typ (mA): 0.5; IO Typ (mA): 16; VCC Max (V): 36; VCC Min (V): 2; DatasheetVersion: Rev. 3; PackageVersion: Rev. K, 04/2013; PackageReference: TSOP-5-483-02; PackageDescription: 5-Pin Small Outline Package, Body 3 x 1.5 mm, Pitch 0.95 mm; Supplier 1: Newark; Supplier Part Number 1: 72W2235; Supplier 2: Mouser; Supplier Part Number 2: 863-NCV391SN2T1G; Packing: Tape and Reel; RoHS: TRUE; Mounting Technology: Surface Mount; ComponentLink1Description: Manufacturer URL; ComponentLink1URL: http://www.onsemi.com/; ComponentLink2Description: Datasheet; ComponentLink2URL: http://www.onsemi.com/pub_link/Collateral/TS391-D.PDF; ComponentLink3Description: Package Specification; ComponentLink3URL: http://www.onsemi.com/pub_link/Collateral/483.PDF
footprint ONSC-TSOP-5-483-02_V (SOP, 5-Leads, Body 3x1.5mm, Pitch 0.95mm)
pins: 1 OUT (oc), 2 VEE (power), 3 IN- (in), 4 IN+ (in), 5 VCC (power)

## NCV2200SN1T1G
designator U?
Low Voltage Comparator, 0.85 to 6 V, -40 to 125 degC, 5-Pin TSOP, Pb-Free, Tape and Reel; Manufacturer: On Semiconductor; PartNumber: NCV2200SN1T1G; ICC Typ (mA): 0.01; VCC Max (V): 6; VCC Min (V): 0.85; DatasheetVersion: Rev. 15; PackageVersion: Rev. K, 04/2013; PackageReference: TSOP-5-483-02; PackageDescription: 5-Pin Small Outline Package, Body 3 x 1.5 mm, Pitch 0.95 mm; Supplier 1: Digi-Key; Supplier Part Number 1: NCV2200SN1T1G-ND; Supplier 2: Mouser; Supplier Part Number 2: 863-NCV2200SN1T1G; Packing: Tape and Reel; RoHS: TRUE; Mounting Technology: Surface Mount; ComponentLink1Description: Manufacturer URL; ComponentLink1URL: http://www.onsemi.com/; ComponentLink2Description: Datasheet; ComponentLink2URL: http://www.onsemi.com/pub_link/Collateral/NCS2200-D.PDF; ComponentLink3Description: Package Specification; ComponentLink3URL: http://www.onsemi.com/pub_link/Collateral/483.PDF
footprint ONSC-TSOP-5-483-02_V (SOP, 5-Leads, Body 3x1.5mm, Pitch 0.95mm)
pins: 1 OUT (out), 2 VCC (power), 3 IN+ (in), 4 IN- (in), 5 VEE (power)

## NCV2200SN2T1G
designator U?
Low Voltage Comparator, 0.85 to 6 V, -40 to 125 degC, 5-Pin TSOP, Pb-Free, Tape and Reel; Manufacturer: On Semiconductor; PartNumber: NCV2200SN2T1G; ICC Typ (mA): 0.01; VCC Max (V): 6; VCC Min (V): 0.85; DatasheetVersion: Rev. 15; PackageVersion: Rev. K, 04/2013; PackageReference: TSOP-5-483-02; PackageDescription: 5-Pin Small Outline Package, Body 3 x 1.5 mm, Pitch 0.95 mm; Supplier 1: Digi-Key; Supplier Part Number 1: NCV2200SN2T1G-ND; Supplier 2: Mouser; Supplier Part Number 2: 863-NCV2200SN2T1G; Packing: Tape and Reel; RoHS: TRUE; Mounting Technology: Surface Mount; ComponentLink1Description: Manufacturer URL; ComponentLink1URL: http://www.onsemi.com/; ComponentLink2Description: Datasheet; ComponentLink2URL: http://www.onsemi.com/pub_link/Collateral/NCS2200-D.PDF; ComponentLink3Description: Package Specification; ComponentLink3URL: http://www.onsemi.com/pub_link/Collateral/483.PDF
footprint ONSC-TSOP-5-483-02_V (SOP, 5-Leads, Body 3x1.5mm, Pitch 0.95mm)
pins: 1 OUT (out), 2 VEE (power), 3 IN+ (in), 4 IN- (in), 5 VCC (power)

## NCV2200SQ2T2G
designator U?
Low Voltage Comparator, 0.85 to 6 V, -40 to 125 degC, 5-Pin SC70, Pb-Free, Tape and Reel; Manufacturer: On Semiconductor; PartNumber: NCV2200SQ2T2G; ICC Typ (mA): 0.01; VCC Max (V): 6; VCC Min (V): 0.85; DatasheetVersion: Rev. 15; PackageVersion: Rev. L, 01/2013; PackageReference: SC70-5-419A-02; PackageDescription: 5-Pin Small Outline Transistor, Body 2 x 1.25 mm, Pitch 0.65 mm; Packing: Tape and Reel; RoHS: TRUE; Mounting Technology: Surface Mount; ComponentLink1Description: Manufacturer URL; ComponentLink1URL: http://www.onsemi.com/; ComponentLink2Description: Datasheet; ComponentLink2URL: http://www.onsemi.com/pub_link/Collateral/NCS2200-D.PDF; ComponentLink3Description: Package Specification; ComponentLink3URL: http://www.onsemi.cn/pub_link/Collateral/419A-02.PDF
footprint ONSC-SC70-5-419A-02_V (SOT23, 5-Leads, Body 2x1.25mm, Pitch 0.65mm)
pins: 1 OUT (out), 2 VEE (power), 3 IN+ (in), 4 IN- (in), 5 VCC (power)

## NCV2901DR2G
designator U?
Single Supply Quad Comparators, -40 to 105 degC, 14-Pin SOIC, Pb-Free, Tape and Reel; Manufacturer: On Semiconductor; PartNumber: NCV2901DR2G; IO Typ (mA): 16; DatasheetVersion: Rev. 20; PackageVersion: Rev. K, 05/2011; PackageReference: SOIC-14-751A-03; PackageDescription: 14-Pin Small Outline Integrated Circuit, Body 8.65 x 3.9 mm, Pitch 1.27 mm; Supplier 1: Digi-Key; Supplier Part Number 1: NCV2901DR2GOSTR-ND; Supplier 2: Digi-Key; Supplier Part Number 2: NCV2901DR2GOSCT-ND; Supplier 3: Farnell; Supplier Part Number 3: 2318471; Supplier 4: Newark; Supplier Part Number 4: 38X6207; Supplier 5: Newark; Supplier Part Number 5: 98H0922; Supplier 6: Newark; Supplier Part Number 6: 90W0784; Supplier 7: Mouser; Supplier Part Number 7: 863-NCV2901DR2G; Packing: Tape and Reel; RoHS: TRUE; Mounting Technology: Surface Mount; ComponentLink1Description: Manufacturer URL; ComponentLink1URL: http://www.onsemi.com/; ComponentLink2Description: Datasheet; ComponentLink2URL: http://www.onsemi.com/pub_link/Collateral/LM339-D.PDF; ComponentLink3Description: Package Specification; ComponentLink3URL: http://www.onsemi.com/pub_link/Collateral/751A-03.PDF
footprint ONSC-SOIC-14-751A-03_V (SOIC, 14-Leads, Body 8.75x4mm, Pitch 1.27mm)
pins on every part: 3 VCC (power), 12 GND (power)
part A pins: 2 OUT1 (oc), 4 IN1- (in), 5 IN1+ (in)
part B pins: 1 OUT2 (oc), 6 IN2- (in), 7 IN2+ (in)
part C pins: 8 IN3- (in), 9 IN3+ (in), 14 OUT3 (oc)
part D pins: 10 IN4- (in), 11 IN4+ (in), 13 OUT4 (oc)

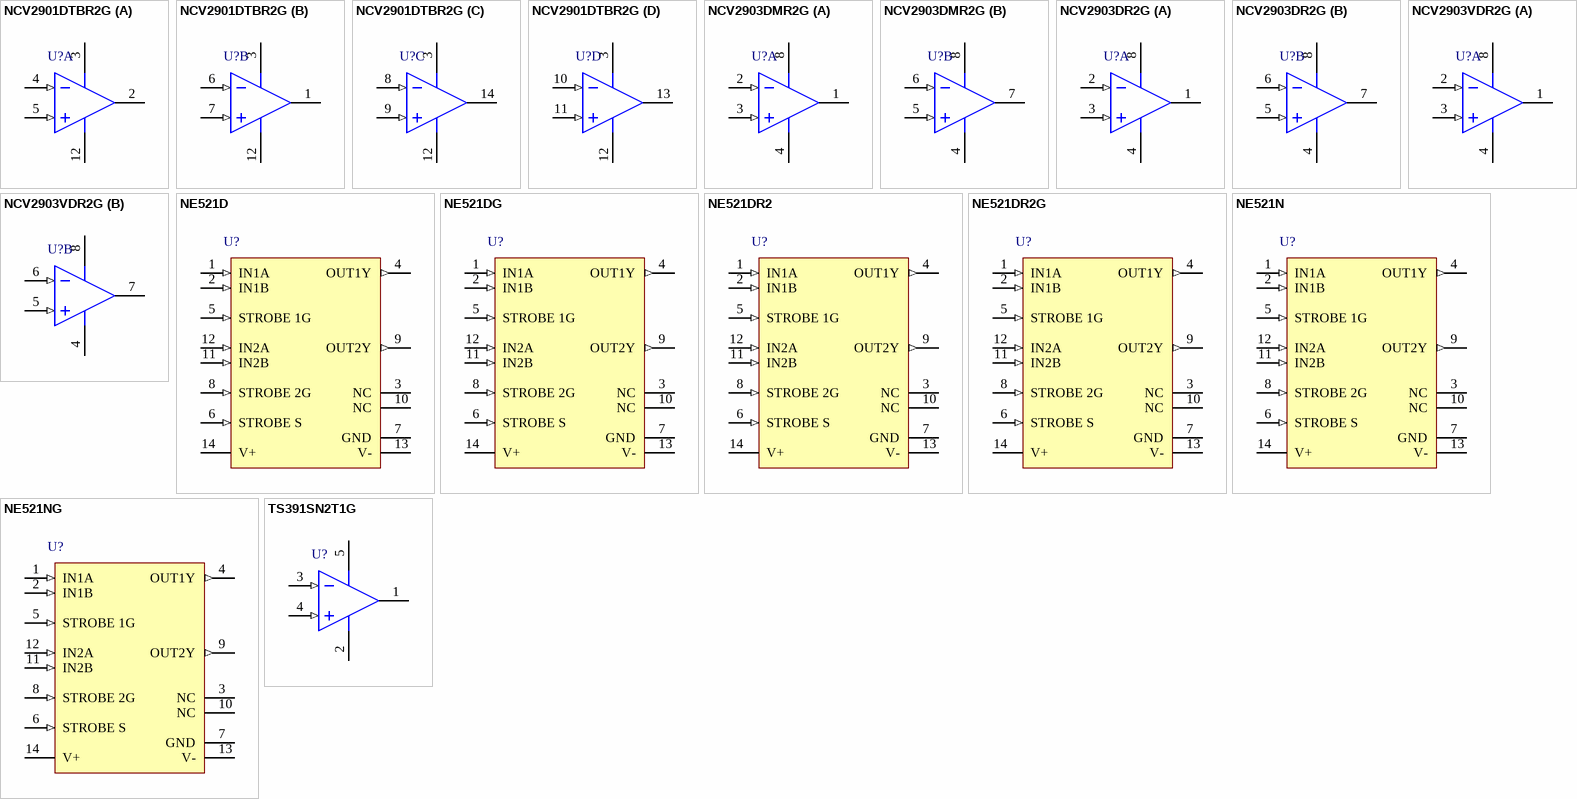
[diagram p4: symbols NCV2901DTBR2G to TS391SN2T1G]

## NCV2901DTBR2G
designator U?
Single Supply Quad Comparators, -40 to 105 degC, 14-Pin TSSOP, Pb-Free, Tape and Reel; Manufacturer: On Semiconductor; PartNumber: NCV2901DTBR2G; IO Typ (mA): 16; DatasheetVersion: Rev. 20; PackageVersion: Rev. B, 10/2006; PackageReference: TSSOP-14-948G-01; PackageDescription: 14-Pin Small Outline Package, Body 5 x 4.4 mm, Pitch 0.65 mm; Supplier 1: Digi-Key; Supplier Part Number 1: NCV2901DTBR2GOSTR-ND; Supplier 2: Digi-Key; Supplier Part Number 2: NCV2901DTBR2GOSCT-ND; Supplier 3: Digi-Key; Supplier Part Number 3: NCV2901DTBR2GOSDKR-ND; Supplier 4: Mouser; Supplier Part Number 4: 863-NCV2901DTBR2G; Packing: Tape and Reel; RoHS: TRUE; Mounting Technology: Surface Mount; ComponentLink1Description: Manufacturer URL; ComponentLink1URL: http://www.onsemi.com/; ComponentLink2Description: Datasheet; ComponentLink2URL: http://www.onsemi.com/pub_link/Collateral/LM339-D.PDF; ComponentLink3Description: Package Specification; ComponentLink3URL: http://www.onsemi.com/pub_link/Collateral/948G-01.PDF
footprint ONSC-TSSOP-14-948G-01_V (SOP, 14-Leads, Body 5.1x4.5mm, Pitch 0.65mm)
pins on every part: 3 VCC (power), 12 GND (power)
part A pins: 2 OUT1 (oc), 4 IN1- (in), 5 IN1+ (in)
part B pins: 1 OUT2 (oc), 6 IN2- (in), 7 IN2+ (in)
part C pins: 8 IN3- (in), 9 IN3+ (in), 14 OUT3 (oc)
part D pins: 10 IN4- (in), 11 IN4+ (in), 13 OUT4 (oc)

## NCV2903DMR2G
designator U?
Low Offset Voltage Dual Comparators, 2 to 36 V, -40 to 125 degC, 8-Pin MICRO, Pb-Free, Tape and Reel; Manufacturer: On Semiconductor; PartNumber: NCV2903DMR2G; ICC Typ (mA): 0.4; IO Typ (mA): 16; VCC Max (V): 36; VCC Min (V): 2; DatasheetVersion: Rev. 25; PackageVersion: Rev. H; PackageReference: MICRO-8-846A-02_H; PackageDescription: 8-Pin Small Outline Package, Body 3 x 3 mm, Pitch 0.65 mm; Supplier 1: Digi-Key; Supplier Part Number 1: NCV2903DMR2GOSTR-ND; Supplier 2: Digi-Key; Supplier Part Number 2: NCV2903DMR2GOSCT-ND; Supplier 3: Newark; Supplier Part Number 3: 26K5003; Supplier 4: Mouser; Supplier Part Number 4: 863-NCV2903DMR2G; Packing: Tape and Reel; RoHS: TRUE; Mounting Technology: Surface Mount; ComponentLink1Description: Manufacturer URL; ComponentLink1URL: http://www.onsemi.com/; ComponentLink2Description: Datasheet; ComponentLink2URL: http://www.onsemi.com/pub_link/Collateral/LM393-D.PDF; ComponentLink3Description: Package Specification; ComponentLink3URL: http://www.onsemi.com/pub_link/Collateral/NLSV2T244-D.PDF
footprint ONSC-MICRO-8-846A-02_H_V (SOIC, 8-Leads, Body 3.1x3.1mm, Pitch 0.65mm)
pins on every part: 4 GND (power), 8 VCC (power)
part A pins: 1 OUTA (oc), 2 INA- (in), 3 INA+ (in)
part B pins: 5 INB+ (in), 6 INB- (in), 7 OUTB (oc)

## NCV2903DR2G
designator U?
Low Offset Voltage Dual Comparators, 2 to 36 V, -40 to 125 degC, 8-Pin SOIC, Pb-Free, Tape and Reel; Manufacturer: On Semiconductor; PartNumber: NCV2903DR2G; ICC Typ (mA): 0.4; IO Typ (mA): 16; VCC Max (V): 36; VCC Min (V): 2; DatasheetVersion: Rev. 25; PackageVersion: Rev. AK, 02/2011; PackageReference: SOIC-8-751-07; PackageDescription: 8-Pin Small Outline Integrated Circuit, Body 4.9 x 3.9 mm, Pitch 1.27 mm; Supplier 1: Digi-Key; Supplier Part Number 1: NCV2903DR2GOSTR-ND; Supplier 2: Digi-Key; Supplier Part Number 2: NCV2903DR2GOSCT-ND; Supplier 3: Digi-Key; Supplier Part Number 3: NCV2903DR2GOSDKR-ND; Supplier 4: Farnell; Supplier Part Number 4: 2318472; Supplier 5: Newark; Supplier Part Number 5: 38X6208; Supplier 6: Newark; Supplier Part Number 6: 67H7074; Supplier 7: Newark; Supplier Part Number 7: 90W0787; Supplier 8: Mouser; Supplier Part Number 8: 863-NCV2903DR2G; Packing: Tape and Reel; RoHS: TRUE; Mounting Technology: Surface Mount; ComponentLink1Description: Manufacturer URL; ComponentLink1URL: http://www.onsemi.com/; ComponentLink2Description: Datasheet; ComponentLink2URL: http://www.onsemi.com/pub_link/Collateral/LM393-D.PDF; ComponentLink3Description: Package Specification; ComponentLink3URL: http://www.onsemi.com/pub_link/Collateral/751-07.PDF
footprint ONSC-SOIC-8-751-07_V (SOIC, 8-Leads, Body 4.9x3.9mm, Pitch 1.27mm)
pins on every part: 4 GND (power), 8 VCC (power)
part A pins: 1 OUTA (oc), 2 INA- (in), 3 INA+ (in)
part B pins: 5 INB+ (in), 6 INB- (in), 7 OUTB (oc)

## NCV2903VDR2G
designator U?
Low Offset Voltage Dual Comparators, 2 to 36 V, -40 to 150 degC, 8-Pin SOIC, Pb-Free, Tape and Reel; Manufacturer: On Semiconductor; PartNumber: NCV2903VDR2G; ICC Typ (mA): 0.4; IO Typ (mA): 16; VCC Max (V): 36; VCC Min (V): 2; DatasheetVersion: Rev. 25; PackageVersion: Rev. AK, 02/2011; PackageReference: SOIC-8-751-07; PackageDescription: 8-Pin Small Outline Integrated Circuit, Body 4.9 x 3.9 mm, Pitch 1.27 mm; Supplier 1: Digi-Key; Supplier Part Number 1: NCV2903VDR2G-ND; Supplier 2: Mouser; Supplier Part Number 2: 863-NCV2903VDR2G; Packing: Tape and Reel; RoHS: TRUE; Mounting Technology: Surface Mount; ComponentLink1Description: Manufacturer URL; ComponentLink1URL: http://www.onsemi.com/; ComponentLink2Description: Datasheet; ComponentLink2URL: http://www.onsemi.com/pub_link/Collateral/LM393-D.PDF; ComponentLink3Description: Package Specification; ComponentLink3URL: http://www.onsemi.com/pub_link/Collateral/751-07.PDF
footprint ONSC-SOIC-8-751-07_V (SOIC, 8-Leads, Body 4.9x3.9mm, Pitch 1.27mm)
pins on every part: 4 GND (power), 8 VCC (power)
part A pins: 1 OUTA (oc), 2 INA- (in), 3 INA+ (in)
part B pins: 5 INB+ (in), 6 INB- (in), 7 OUTB (oc)

## NE521D
designator U?
High-Speed Dual-Differential Comparator / Sense Amplifier, -7 to 7 V, 0 to 70 degC, 14-Pin SOIC, Tube; Manufacturer: On Semiconductor; PartNumber: NE521D; VCC Max (V): 7; DatasheetVersion: Rev. 4; PackageVersion: Rev. H; PackageReference: SOIC-14-751A-03_H; PackageDescription: 14-Pin Small Outline Integrated Circuit, Body 8.65 x 3.9 mm, Pitch 1.27 mm; Packing: Tube; RoHS: FALSE; VCC Min (V): -7; Mounting Technology: Surface Mount; ComponentLink1Description: Manufacturer URL; ComponentLink1URL: http://www.onsemi.com/; ComponentLink2Description: Datasheet; ComponentLink2URL: http://www.onsemi.com/pub_link/Collateral/NE521-D.PDF; ComponentLink3Description: Package Specification; ComponentLink3URL: http://www.onsemi.com/pub_link/Collateral/MC74AC74-D.PDF
footprint ONSC-SOIC-14-751A-03_H_V (SOIC, 14-Leads, Body 8.75x4mm, Pitch 1.27mm)
pins: 1 IN1A (in), 2 IN1B (in), 3 NC, 4 OUT1Y (out), 5 STROBE 1G (in), 6 STROBE S (in), 7 GND (power), 8 STROBE 2G (in), 9 OUT2Y (out), 10 NC, 11 IN2B (in), 12 IN2A (in), 13 V- (power), 14 V+ (power)

## NE521DG
designator U?
High-Speed Dual-Differential Comparator / Sense Amplifier, -7 to 7 V, 0 to 70 degC, 14-Pin SOIC, Pb-Free, Tube; Manufacturer: On Semiconductor; PartNumber: NE521DG; VCC Max (V): 7; DatasheetVersion: Rev. 4; PackageVersion: Rev. H; PackageReference: SOIC-14-751A-03_H; PackageDescription: 14-Pin Small Outline Integrated Circuit, Body 8.65 x 3.9 mm, Pitch 1.27 mm; Supplier 1: Digi-Key; Supplier Part Number 1: NE521DGOS-ND; Supplier 2: Newark; Supplier Part Number 2: 42K2199; Supplier 3: Mouser; Supplier Part Number 3: 863-NE521DG; Packing: Tube; RoHS: TRUE; VCC Min (V): -7; Mounting Technology: Surface Mount; ComponentLink1Description: Manufacturer URL; ComponentLink1URL: http://www.onsemi.com/; ComponentLink2Description: Datasheet; ComponentLink2URL: http://www.onsemi.com/pub_link/Collateral/NE521-D.PDF; ComponentLink3Description: Package Specification; ComponentLink3URL: http://www.onsemi.com/pub_link/Collateral/MC74AC74-D.PDF
footprint ONSC-SOIC-14-751A-03_H_V (SOIC, 14-Leads, Body 8.75x4mm, Pitch 1.27mm)
pins: 1 IN1A (in), 2 IN1B (in), 3 NC, 4 OUT1Y (out), 5 STROBE 1G (in), 6 STROBE S (in), 7 GND (power), 8 STROBE 2G (in), 9 OUT2Y (out), 10 NC, 11 IN2B (in), 12 IN2A (in), 13 V- (power), 14 V+ (power)

## NE521DR2
designator U?
High-Speed Dual-Differential Comparator / Sense Amplifier, -7 to 7 V, 0 to 70 degC, 14-Pin SOIC, Tape and Reel; Manufacturer: On Semiconductor; PartNumber: NE521DR2; VCC Max (V): 7; DatasheetVersion: Rev. 4; PackageVersion: Rev. H; PackageReference: SOIC-14-751A-03_H; PackageDescription: 14-Pin Small Outline Integrated Circuit, Body 8.65 x 3.9 mm, Pitch 1.27 mm; Supplier 1: Digi-Key; Supplier Part Number 1: NE521DR2-ND; Packing: Tape and Reel; RoHS: FALSE; VCC Min (V): -7; Mounting Technology: Surface Mount; ComponentLink1Description: Manufacturer URL; ComponentLink1URL: http://www.onsemi.com/; ComponentLink2Description: Datasheet; ComponentLink2URL: http://www.onsemi.com/pub_link/Collateral/NE521-D.PDF; ComponentLink3Description: Package Specification; ComponentLink3URL: http://www.onsemi.com/pub_link/Collateral/MC74AC74-D.PDF
footprint ONSC-SOIC-14-751A-03_H_V (SOIC, 14-Leads, Body 8.75x4mm, Pitch 1.27mm)
pins: 1 IN1A (in), 2 IN1B (in), 3 NC, 4 OUT1Y (out), 5 STROBE 1G (in), 6 STROBE S (in), 7 GND (power), 8 STROBE 2G (in), 9 OUT2Y (out), 10 NC, 11 IN2B (in), 12 IN2A (in), 13 V- (power), 14 V+ (power)